# EAGLE library part POWERSTEP01-SHIELD (library powerSTEP01-Shield)
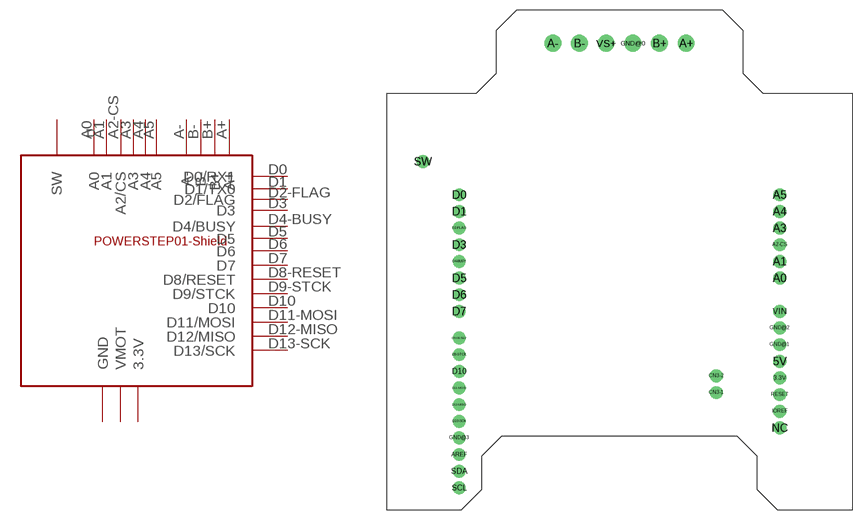
[diagram p2: symbol with the pads of POWERSTEP1; footprint POWERSTEP1]

Designator prefix -

## POWERSTEP01-SHIELD  [POWERSTEP1]
3.3V  3.3V  pwr
A0  A0
A1  A1
A2-CS  A2/CS
A3  A3
A4  A4
A5  A5
A+  A+
A-  A-
B+  B+
B-  B-
D0  D0/RX1
D1  D1/TX0
D2-FLAG  D2/FLAG
D3  D3
D4-BUSY  D4/BUSY
D5  D5
D6  D6
D7  D7
D8-RESET  D8/RESET
D9-STCK  D9/STCK
D10  D10
D11-MOSI  D11/MOSI
D12-MISO  D12/MISO
D13-SCK  D13/SCK
GND@0  GND  pwr
GND@1  GND  pwr
GND@2  GND  pwr
GND@3  GND  pwr
IOREF  3.3V  pwr
SW  SW  in
VS+  VMOT  pwr

## Footprint POWERSTEP1 (pad centres in mm)
drill 1.016 pad 1.93: 3.3V 59.115,19.811; 5V 59.115,22.311; A0 59.115,34.811; A1 59.115,37.311; A2-CS 59.115,39.811; A3 59.115,42.311; A4 59.115,44.811; A5 59.115,47.311; AREF 11.015,8.311; CN3-1 49.615,17.611; CN3-2 49.615,20.111; D0 11.015,47.311; D1 11.015,44.811; D2-FLAG 11.015,42.311; D3 11.015,39.811; D4-BUSY 11.015,37.311; D5 11.015,34.811; D6 11.015,32.311; D7 11.015,29.811; D8-RESET 11.015,25.811; D9-STCK 11.015,23.311; D10 11.015,20.811; D11-MOSI 11.015,18.311; D12-MISO 11.015,15.811; D13-SCK 11.015,13.311; GND@1 59.115,24.811; GND@2 59.115,27.311; GND@3 11.015,10.811; IOREF 59.115,14.811; NC 59.115,12.311; RESET 59.115,17.311; SCL 11.015,3.311; SDA 11.015,5.811; SW 5.565,52.311; VIN 59.115,29.811
drill 1.1 pad 2.54: A+ 45.065,70.061; A- 25.065,70.061; B+ 41.065,70.061; B- 29.065,70.061; GND@0 37.065,70.061; VS+ 33.065,70.061